# Altium schematic symbol library Sensor_Distance.SchLib: 5 symbols
Pins are listed as number, name and electrical type; pins without a type are passive.

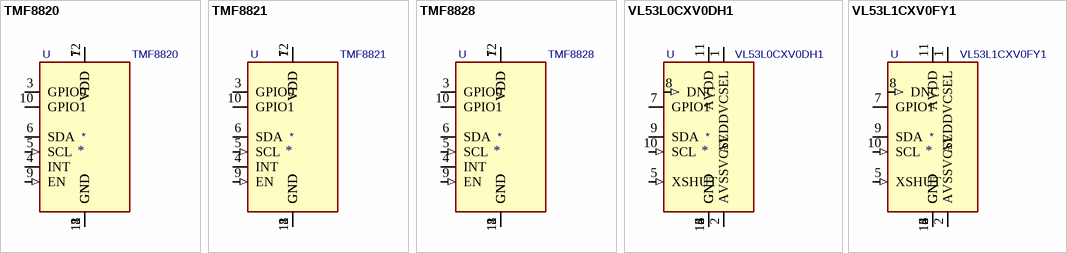
[diagram p0: symbols TMF8820 to VL53L1CXV0FY1]

## TMF8820
designator *  value TMF8820  Reference: U
5m distance ranging ToF sensor, 3x3 zones, LGA-12; ki_keywords: TMF882x ToF; ki_fp_filters: AMS*OLGA12*; Footprint: Sensor_Distance:AMS_OLGA12; Datasheet: https://ams.com/documents/20143/6015057/TMF882X_DS000693_8-00.pdf; Description_: 5m distance ranging ToF sensor, 3x3 zones, LGA-12
pins: 1 VDD (power), 2 GND (power), 3 GPIO0 (hiz), 4 INT (oc), 5 SCL (in), 6 SDA (io), 7 VDD, 8 GND, 9 EN (in), 10 GPIO1 (hiz), 11 GND, 12 VDD

## TMF8821
designator *  value TMF8821  Reference: U
5m distance ranging ToF sensor, 3x3, 4x4, 3x6 zones, LGA-12; ki_keywords: TMF882x ToF; ki_fp_filters: AMS*OLGA12*; Footprint: Sensor_Distance:AMS_OLGA12; Datasheet: https://ams.com/documents/20143/6015057/TMF882X_DS000693_8-00.pdf; Description_: 5m distance ranging ToF sensor, 3x3, 4x4, 3x6 zones, LGA-12
pins: 1 VDD (power), 2 GND (power), 3 GPIO0 (hiz), 4 INT (oc), 5 SCL (in), 6 SDA (io), 7 VDD, 8 GND, 9 EN (in), 10 GPIO1 (hiz), 11 GND, 12 VDD

## TMF8828
designator *  value TMF8828  Reference: U
5m distance ranging ToF sensor, 3x3, 4x4, 3x6, 8x8 zones, LGA-12; ki_keywords: TMF882x ToF; ki_fp_filters: AMS*OLGA12*; Footprint: Sensor_Distance:AMS_OLGA12; Datasheet: https://ams.com/documents/20143/6015057/TMF882X_DS000693_8-00.pdf; Description_: 5m distance ranging ToF sensor, 3x3, 4x4, 3x6, 8x8 zones, LGA-12
pins: 1 VDD (power), 2 GND (power), 3 GPIO0 (hiz), 4 INT (oc), 5 SCL (in), 6 SDA (io), 7 VDD, 8 GND, 9 EN (in), 10 GPIO1 (hiz), 11 GND, 12 VDD

## VL53L0CXV0DH1
designator *  value VL53L0CXV0DH1  Reference: U
2m distance ranging ToF sensor, Optical LGA12; ki_keywords: VL53L0x ToF; ki_fp_filters: ST*VL53L1x*; Footprint: Sensor_Distance:ST_VL53L1x; Datasheet: https://www.st.com/resource/en/datasheet/vl53l0x.pdf; Description_: 2m distance ranging ToF sensor, Optical LGA12
pins: 1 AVDDVCSEL (power), 2 AVSSVCSEL (power), 3 GND (power), 4 GND, 5 XSHUT (in), 6 GND, 7 GPIO1 (oc), 8 DNC (in), 9 SDA (io), 10 SCL (in), 11 AVDD (power), 12 GND

## VL53L1CXV0FY1
designator *  value VL53L1CXV0FY1  Reference: U
4m distance ranging ToF sensor, Optical LGA12; ki_keywords: VL53L1x ToF; ki_fp_filters: ST*VL53L1x*; Footprint: Sensor_Distance:ST_VL53L1x; Datasheet: https://www.st.com/resource/en/datasheet/vl53l1x.pdf; Description_: 4m distance ranging ToF sensor, Optical LGA12
pins: 1 AVDDVCSEL (power), 2 AVSSVCSEL (power), 3 GND (power), 4 GND, 5 XSHUT (in), 6 GND, 7 GPIO1 (oc), 8 DNC (in), 9 SDA (io), 10 SCL (in), 11 AVDD (power), 12 GND